# Altium footprint library SOP-8_4x5.PcbLib: 1 footprints
Each footprint in its own frame and in the unit in brackets; x right, y up, seen from the top. Pads: shape width x height; smd on the part's side, far side on the other; paste and mask are expansions set on the pad; w line width, h text height; cw(c..) or ccw(c..) is an arc to the next point about the centre after c.
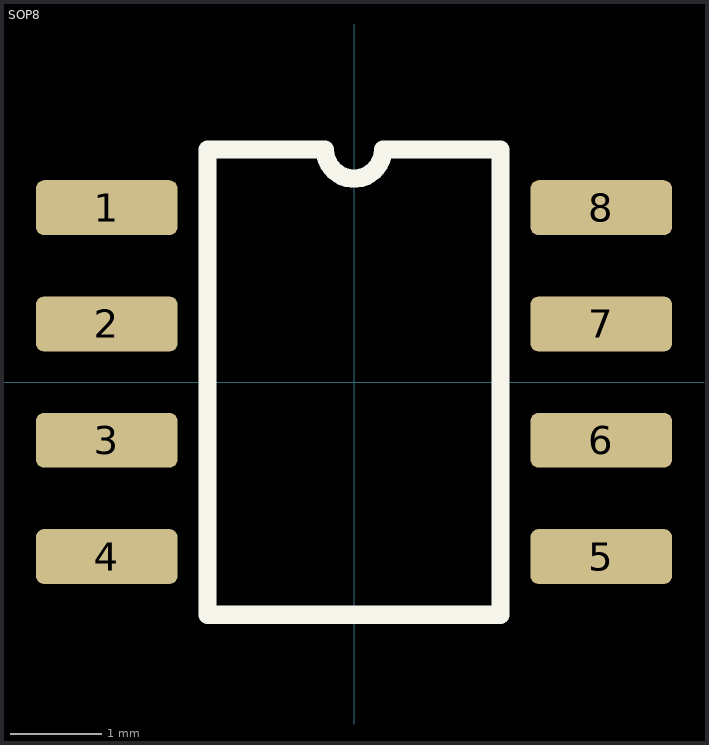
[diagram p0: the footprint, top view; thin cyan lines are the x and y axes]

## SOP8 [mm]
height 11
pads (8):
  rrect30% 1.55x0.6 smd: 1(-2.7,1.905) 2(-2.7,0.635) 3(-2.7,-0.635) 4(-2.7,-1.905) 5(2.7,-1.905) 6(2.7,-0.635) 7(2.7,0.635) 8(2.7,1.905)
Top Overlay:
  lines w0.2: -1.6,-2.54 1.6,-2.54 1.6,2.54 0.318,2.54 cw(c0,2.54) -0.318,2.54 -1.6,2.54 -1.6,-2.54
3D body "CircuitWorks-SO-8.step": height 1.45, standoff 0, extent -2.889,-2.445 2.889,2.457